# Altium footprint library Display.PcbLib: 3 footprints
Each footprint in its own frame and in the unit in brackets; x right, y up, seen from the top. Pads: shape width x height; smd on the part's side, far side on the other; paste and mask are expansions set on the pad; w line width, h text height; cw(c..) or ccw(c..) is an arc to the next point about the centre after c.
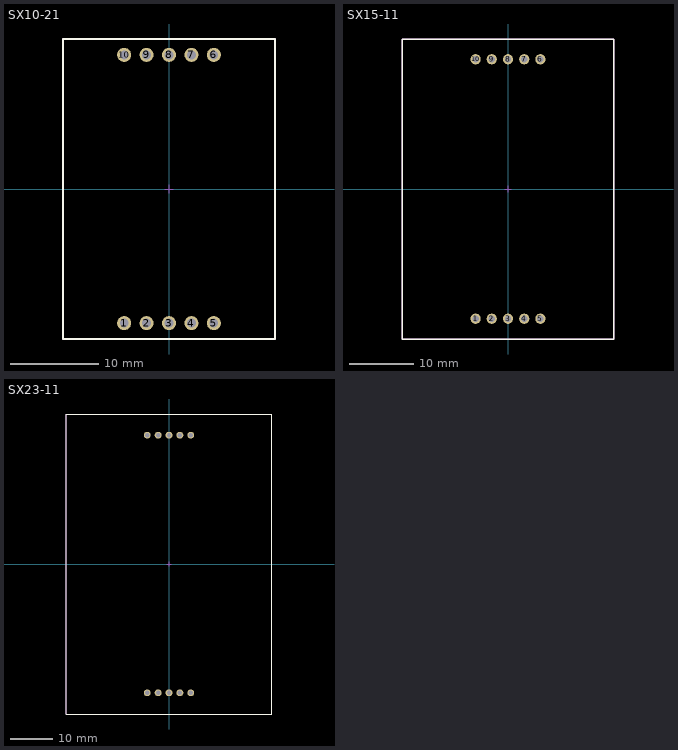
[diagram p0: the footprints below, top view; thin cyan lines are the x and y axes]

## SX10-21 [mm] "7-Segment Display, 25.4mm (1 inch)"
height 2.5
pads (10):
  round 1.6 hole 1: 1(-5.08,-15.2) 2(-2.54,-15.2) 3(0,-15.2) 4(2.54,-15.2) 5(5.08,-15.2) 6(5.08,15.2) 7(2.54,15.2) 8(0,15.2) 9(-2.54,15.2) 10(-5.08,15.2)
Top Overlay:
  lines w0.2: -12,-17 -12,17 12,17 12,-17 -12,-17
ReperDotTop:
  lines w0.1: -0.5,0 0.5,0 ; 0,-0.5 0,0.5
AssemblyOutlineTop:
  lines w0.2: -12,-17 -12,17 12,17 12,-17 -12,-17
  text "'.Designator'" at 0,0 h2.5
3D body "User Library-King Bright SA10-21.step": height 10.55, standoff -3.95, extent -12,-17 12,17

## SX15-11 [mm] "7-Segment Display, 38.1mm (1.5 inch)"
height 2.5
pads (10):
  round 1.6 hole 1: 1(-5.08,-20.32) 2(-2.54,-20.32) 3(0,-20.32) 4(2.54,-20.32) 5(5.08,-20.32) 6(5.08,20.32) 7(2.54,20.32) 8(0,20.32) 9(-2.54,20.32) 10(-5.08,20.32)
Top Overlay:
  lines w0.2: -16.6,-23.5 -16.6,23.5 16.6,23.5 16.6,-23.5 -16.6,-23.5
ReperDotTop:
  lines w0.1: -0.5,0 0.5,0 ; 0,-0.5 0,0.5
AssemblyOutlineTop:
  lines w0.2: -16.6,-23.5 -16.6,23.5 16.6,23.5 16.6,-23.5 -16.6,-23.5
  text "'.Designator'" at 0,0 h2.5
3D body "User Library-King Bright SA15-11.step": height 12.6, standoff -3.9, extent -16.575,-23.5 16.575,23.5

## SX23-11 [mm] "7-Segment Display, 57mm (2.3 inch)"
height 2.5
pads (10):
  round 1.6 hole 1: 1(-5.08,-30.05) 2(-2.54,-30.05) 3(0,-30.05) 4(2.54,-30.05) 5(5.08,-30.05) 6(5.08,30.05) 7(2.54,30.05) 8(0,30.05) 9(-2.54,30.05) 10(-5.08,30.05)
Top Overlay:
  lines w0.2: -24,-35 -24,35 24,35 24,-35 -24,-35
ReperDotTop:
  lines w0.1: -0.5,0 0.5,0 ; 0,-0.5 0,0.5
AssemblyOutlineTop:
  lines w0.2: -24,-35 -24,35 24,35 24,-35 -24,-35
  text "'.Designator'" at 0,0 h2.5
3D body "User Library-SA23-11.step": height 12, standoff -3, extent -24,-35 24,35